# Altium footprint library ThroughHole_Generic.PcbLib: 8 footprints
Each footprint in its own frame and in the unit in brackets; x right, y up, seen from the top. Pads: shape width x height; smd on the part's side, far side on the other; paste and mask are expansions set on the pad; w line width, h text height; cw(c..) or ccw(c..) is an arc to the next point about the centre after c.
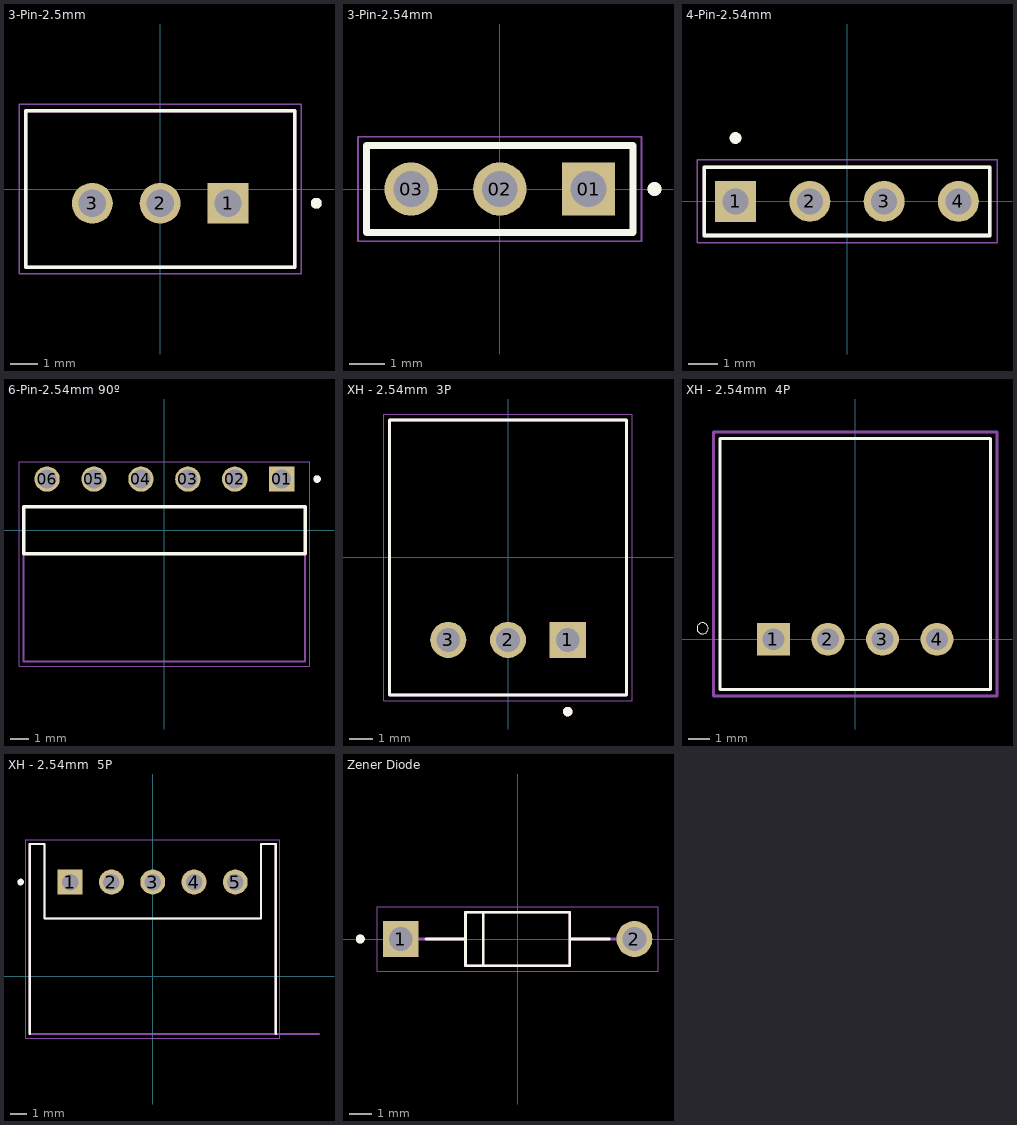
[diagram p0: the footprints below, top view; thin cyan lines are the x and y axes]

## 3-Pin-2.5mm [mm]
height 7
pads (3):
  rect 1.508x1.508 / inner round 1.508 / far side rect 1.508x1.508 hole 1: 1(2.5,-0.525)
  round 1.508 hole 1: 2(0,-0.525) 3(-2.5,-0.525)
Top Overlay:
  circle w0.2: c5.75,-0.525 r0.1
  lines w0.127: -4.95,-2.875 4.95,-2.875 4.95,2.875 -4.95,2.875 -4.95,-2.875
Mechanical 13:
  circle w0.2: c5.75,-0.525 r0.1
  lines w0.127: -4.95,-2.875 4.95,-2.875 4.95,2.875 -4.95,2.875 -4.95,-2.875
Mechanical 15:
  lines w0.05: -5.2,-3.125 5.2,-3.125 5.2,3.125 -5.2,3.125 -5.2,-3.125
3D body "step_temp.STEP": height 7, standoff -3.4, extent -4.95,-2.875 4.95,2.875

## 3-Pin-2.54mm [mm]
pads (3):
  rect 1.53x1.53 hole 1.02: 01(2.54,0)
  round 1.53 hole 1.02: 02(0,0) 03(-2.54,0)
Top Overlay:
  circle w0.2: c4.43,0 r0.1
  lines w0.2: -3.81,-1.245 3.81,-1.245 3.81,1.245 -3.81,1.245 -3.81,-1.245
Mechanical 13:
  circle w0.2: c4.43,0 r0.1
  lines w0.1: -3.81,-1.245 3.81,-1.245 3.81,1.245 -3.81,1.245 -3.81,-1.245
Mechanical 15:
  lines w0.05: -4.06,-1.495 4.06,-1.495 4.06,1.495 -4.06,1.495 -4.06,-1.495

## 4-Pin-2.54mm [mm]
pads (4):
  rect 1.398x1.398 hole 0.89: 1(-3.81,0)
  round 1.398 hole 0.89: 2(-1.27,0) 3(1.27,0) 4(3.81,0)
Top Overlay:
  circle w0.2: c-3.81,2.168 r0.1
  lines w0.127: -4.877,-1.168 4.877,-1.168 4.877,1.168 -4.877,1.168 -4.877,-1.168
Mechanical 13:
  circle w0.2: c-3.81,2.168 r0.1
  lines w0.127: -4.877,-1.168 4.877,-1.168 4.877,1.168 -4.877,1.168 -4.877,-1.168
Mechanical 15:
  lines w0.05: -5.127,-1.418 5.127,-1.418 5.127,1.418 -5.127,1.418 -5.127,-1.418

## 6-Pin-2.54mm 90º [mm]
pads (6):
  rect 1.37x1.37 / inner round 1.37 / far side rect 1.37x1.37 hole 1.02: 01(6.35,2.77)
  round 1.37 hole 1.02: 02(3.81,2.77) 03(1.27,2.77) 04(-1.27,2.77) 05(-3.81,2.77) 06(-6.35,2.77)
Top Overlay:
  circle w0.2: c8.27,2.77 r0.1
  lines w0.2: -7.62,-1.27 7.62,-1.27 7.62,1.27 -7.62,1.27 -7.62,-1.27
Mechanical 13:
  circle w0.2: c8.27,2.77 r0.1
  lines w0.1: -7.62,-1.27 -7.62,-7.11 7.62,-7.11 7.62,-1.27 ; -7.62,-1.27 7.62,-1.27 ; -7.62,-1.27 -7.62,1.27 7.62,1.27 7.62,-1.27
Mechanical 15:
  lines w0.05: -7.87,-7.36 7.87,-7.36 7.87,3.705 -7.87,3.705 -7.87,-7.36

## XH - 2.54mm  3P [mm]
height 6.1
pads (3):
  rect 1.508x1.508 / inner round 1.508 / far side rect 1.508x1.508 hole 1: 1(2.5,-3.45)
  round 1.508 hole 1: 2(0,-3.45) 3(-2.5,-3.45)
Top Overlay:
  circle w0.2: c2.5,-6.45 r0.1
  lines w0.127: -4.95,-5.75 -4.95,5.75 4.95,5.75 4.95,-5.75 -4.95,-5.75
Mechanical 13:
  circle w0.2: c2.5,-6.45 r0.1
  lines w0.127: -4.95,-5.75 -4.95,5.75 4.95,5.75 4.95,-5.75 -4.95,-5.75
Mechanical 15:
  lines w0.05: -5.2,-6 -5.2,6 5.2,6 5.2,-6 -5.2,-6

## XH - 2.54mm  4P [mm]
pads (4):
  rect 1.508x1.508 / inner round 1.508 / far side rect 1.508x1.508 hole 1: 1(-3.75,0)
  round 1.508 hole 1: 2(-1.25,0) 3(1.25,0) 4(3.75,0)
Top Overlay:
  circle w0: c-7,0.5 r0.254
  lines w0.127: -6.2,-2.3 6.2,-2.3 6.2,9.2 -6.2,9.2 -6.2,-2.3
Mechanical 15:
  lines w0.127: -6.5,-2.6 6.5,-2.6 6.5,9.5 -6.5,9.5 -6.5,-2.6
3D body "step_temp.STEP": height 6.15, standoff -3.4, extent -6.2,-2.321 6.2,9.179

## XH - 2.54mm  5P [mm]
height 6.1
pads (5):
  rect 1.508x1.508 / inner round 1.508 / far side rect 1.508x1.508 hole 1: 1(-5,5.7)
  round 1.508 hole 1: 2(-2.5,5.7) 3(0,5.7) 4(2.5,5.7) 5(5,5.7)
Top Overlay:
  circle w0.2: c-8,5.7 r0.1
  lines w0.127: -7.45,-3.5 -7.45,8 -6.55,8 -6.55,3.5 6.55,3.5 6.55,8 7.45,8 7.45,-3.5
Mechanical 13:
  circle w0.2: c-8,5.7 r0.1
  lines w0.127: 10.07,-3.5 7.45,-3.5 ; 7.45,-3.5 7.45,8 6.55,8 6.55,3.5 -6.55,3.5 -6.55,8 -7.45,8 -7.45,-3.5 7.45,-3.5
  text "PCB Edge" at 7.918,-3.203 h0.81
Mechanical 15:
  lines w0.05: -7.7,-3.75 7.7,-3.75 7.7,8.25 -7.7,8.25 -7.7,-3.75
3D body "step_temp.STEP": height 6.1, standoff -3.4, extent -7.45,-3.5 7.45,8

## Zener Diode [mm]
height 2.72
pads (2):
  rect 1.59x1.59 / inner round 1.59 / far side rect 1.59x1.59 hole 1.06: 1(-5.18,0)
  round 1.59 hole 1.06: 2(5.18,0)
Top Overlay:
  circle w0.2: c-6.975,0 r0.1
  lines w0.127: -4.065,0 -2.315,0 ; -1.524,-1.143 -1.524,1.143 ; 4.065,0 2.315,0 ; -2.315,0 -2.315,-1.188 2.315,-1.188 2.315,0 ; -2.315,0 -2.315,1.188 2.315,1.188 2.315,0
Mechanical 13:
  circle w0.2: c-6.975,0 r0.1
  lines w0.127: -5.18,0 -2.315,0 ; 5.18,0 2.315,0 ; -2.315,0 -2.315,-1.188 2.315,-1.188 2.315,0 ; -2.315,0 -2.315,1.188 2.315,1.188 2.315,0
Mechanical 15:
  lines w0.05: -6.225,-1.438 -6.225,1.438 6.225,1.438 6.225,-1.438 -6.225,-1.438
3D body "step_temp.STEP": height 2.72, standoff -21.88, extent -5.288,-1.36 5.288,1.36